# Altium schematic symbol library AltiumDesigner.SchLib: 2 symbols
Pins are listed as number, name and electrical type; pins without a type are passive.

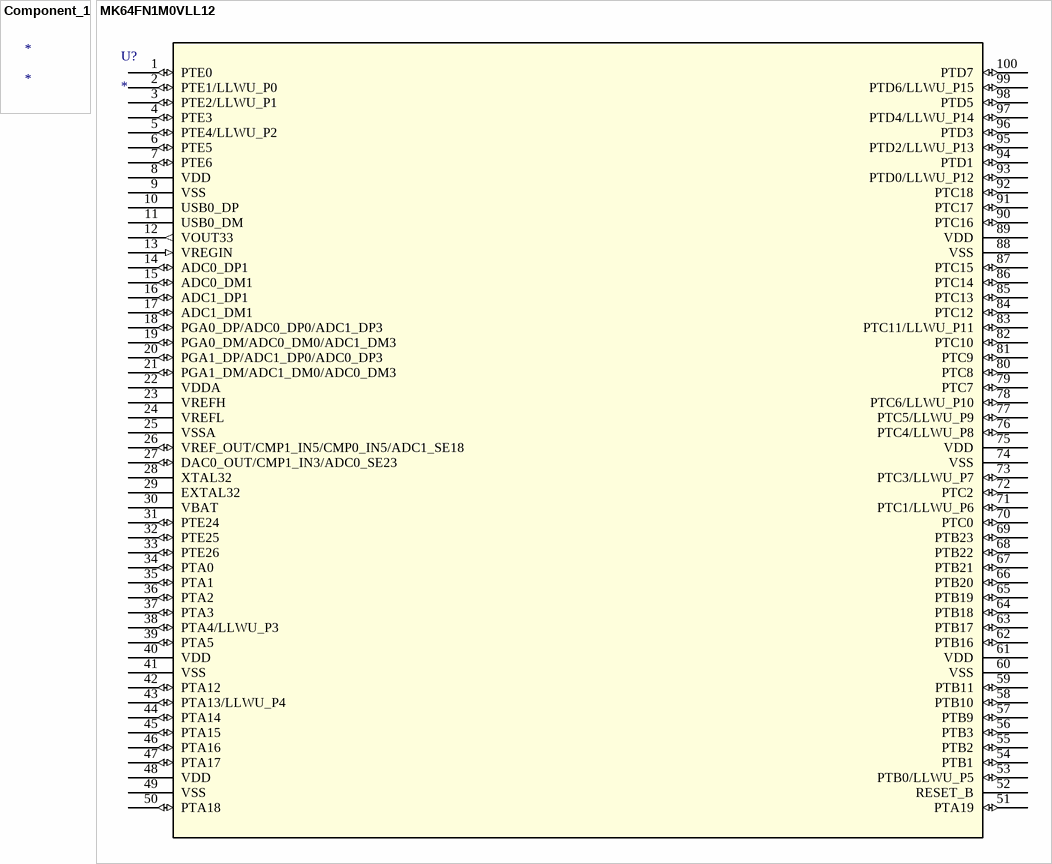
[diagram p0: symbols Component_1 to MK64FN1M0VLL12]

## Component_1
designator *

## MK64FN1M0VLL12
designator U?
Imported; Manufacturer_Part_Number: mk64fn1m0vll12; Vendor: FREESCALE; CPU: ARM Cortex-M4F; Max_Frequency: 120; Flash_KB: 1024; SRAM_KB: 256; Pin_Count: 100; Package: LQFP; RefDes: RefDes; Type: DEV; Value: Value
footprint LQFP-100_14X14X1
pins: 1 PTE0 (io), 2 PTE1/LLWU_P0 (io), 3 PTE2/LLWU_P1 (io), 4 PTE3 (io), 5 PTE4/LLWU_P2 (io), 6 PTE5 (io), 7 PTE6 (io), 8 VDD (power), 9 VSS (power), 10 USB0_DP, 11 USB0_DM, 12 VOUT33 (out), 13 VREGIN (in), 14 ADC0_DP1 (io), 15 ADC0_DM1 (io), 16 ADC1_DP1 (io), 17 ADC1_DM1 (io), 18 PGA0_DP/ADC0_DP0/ADC1_DP3 (io), 19 PGA0_DM/ADC0_DM0/ADC1_DM3 (io), 20 PGA1_DP/ADC1_DP0/ADC0_DP3 (io), 21 PGA1_DM/ADC1_DM0/ADC0_DM3 (io), 22 VDDA (power), 23 VREFH (power), 24 VREFL (power), 25 VSSA (power), 26 VREF_OUT/CMP1_IN5/CMP0_IN5/ADC1_SE18 (io), 27 DAC0_OUT/CMP1_IN3/ADC0_SE23 (io), 28 XTAL32, 29 EXTAL32, 30 VBAT (power), 31 PTE24 (io), 32 PTE25 (io), 33 PTE26 (io), 34 PTA0 (io), 35 PTA1 (io), 36 PTA2 (io), 37 PTA3 (io), 38 PTA4/LLWU_P3 (io), 39 PTA5 (io), 40 VDD (power), 41 VSS (power), 42 PTA12 (io), 43 PTA13/LLWU_P4 (io), 44 PTA14 (io), 45 PTA15 (io), 46 PTA16 (io), 47 PTA17 (io), 48 VDD (power), 49 VSS (power), 50 PTA18 (io), 51 PTA19 (io), 52 RESET_B, 53 PTB0/LLWU_P5 (io), 54 PTB1 (io), 55 PTB2 (io), 56 PTB3 (io), 57 PTB9 (io), 58 PTB10 (io), 59 PTB11 (io), 60 VSS (power), 61 VDD (power), 62 PTB16 (io), 63 PTB17 (io), 64 PTB18 (io), 65 PTB19 (io), 66 PTB20 (io), 67 PTB21 (io), 68 PTB22 (io), 69 PTB23 (io), 70 PTC0 (io), 71 PTC1/LLWU_P6 (io), 72 PTC2 (io), 73 PTC3/LLWU_P7 (io), 74 VSS (power), 75 VDD (power), 76 PTC4/LLWU_P8 (io), 77 PTC5/LLWU_P9 (io), 78 PTC6/LLWU_P10 (io), 79 PTC7 (io), 80 PTC8 (io), 81 PTC9 (io), 82 PTC10 (io), 83 PTC11/LLWU_P11 (io), 84 PTC12 (io), 85 PTC13 (io), 86 PTC14 (io), 87 PTC15 (io), 88 VSS (power), 89 VDD (power), 90 PTC16 (io), 91 PTC17 (io), 92 PTC18 (io), 93 PTD0/LLWU_P12 (io), 94 PTD1 (io), 95 PTD2/LLWU_P13 (io), 96 PTD3 (io), 97 PTD4/LLWU_P14 (io), 98 PTD5 (io), 99 PTD6/LLWU_P15 (io), 100 PTD7 (io)